# Altium footprint library E32-PcbLib.PcbLib: 17 footprints (part 1 of 2)
Each footprint in its own frame and in the unit in brackets; x right, y up, seen from the top. Pads: shape width x height; smd on the part's side, far side on the other; paste and mask are expansions set on the pad; w line width, h text height; cw(c..) or ccw(c..) is an arc to the next point about the centre after c.
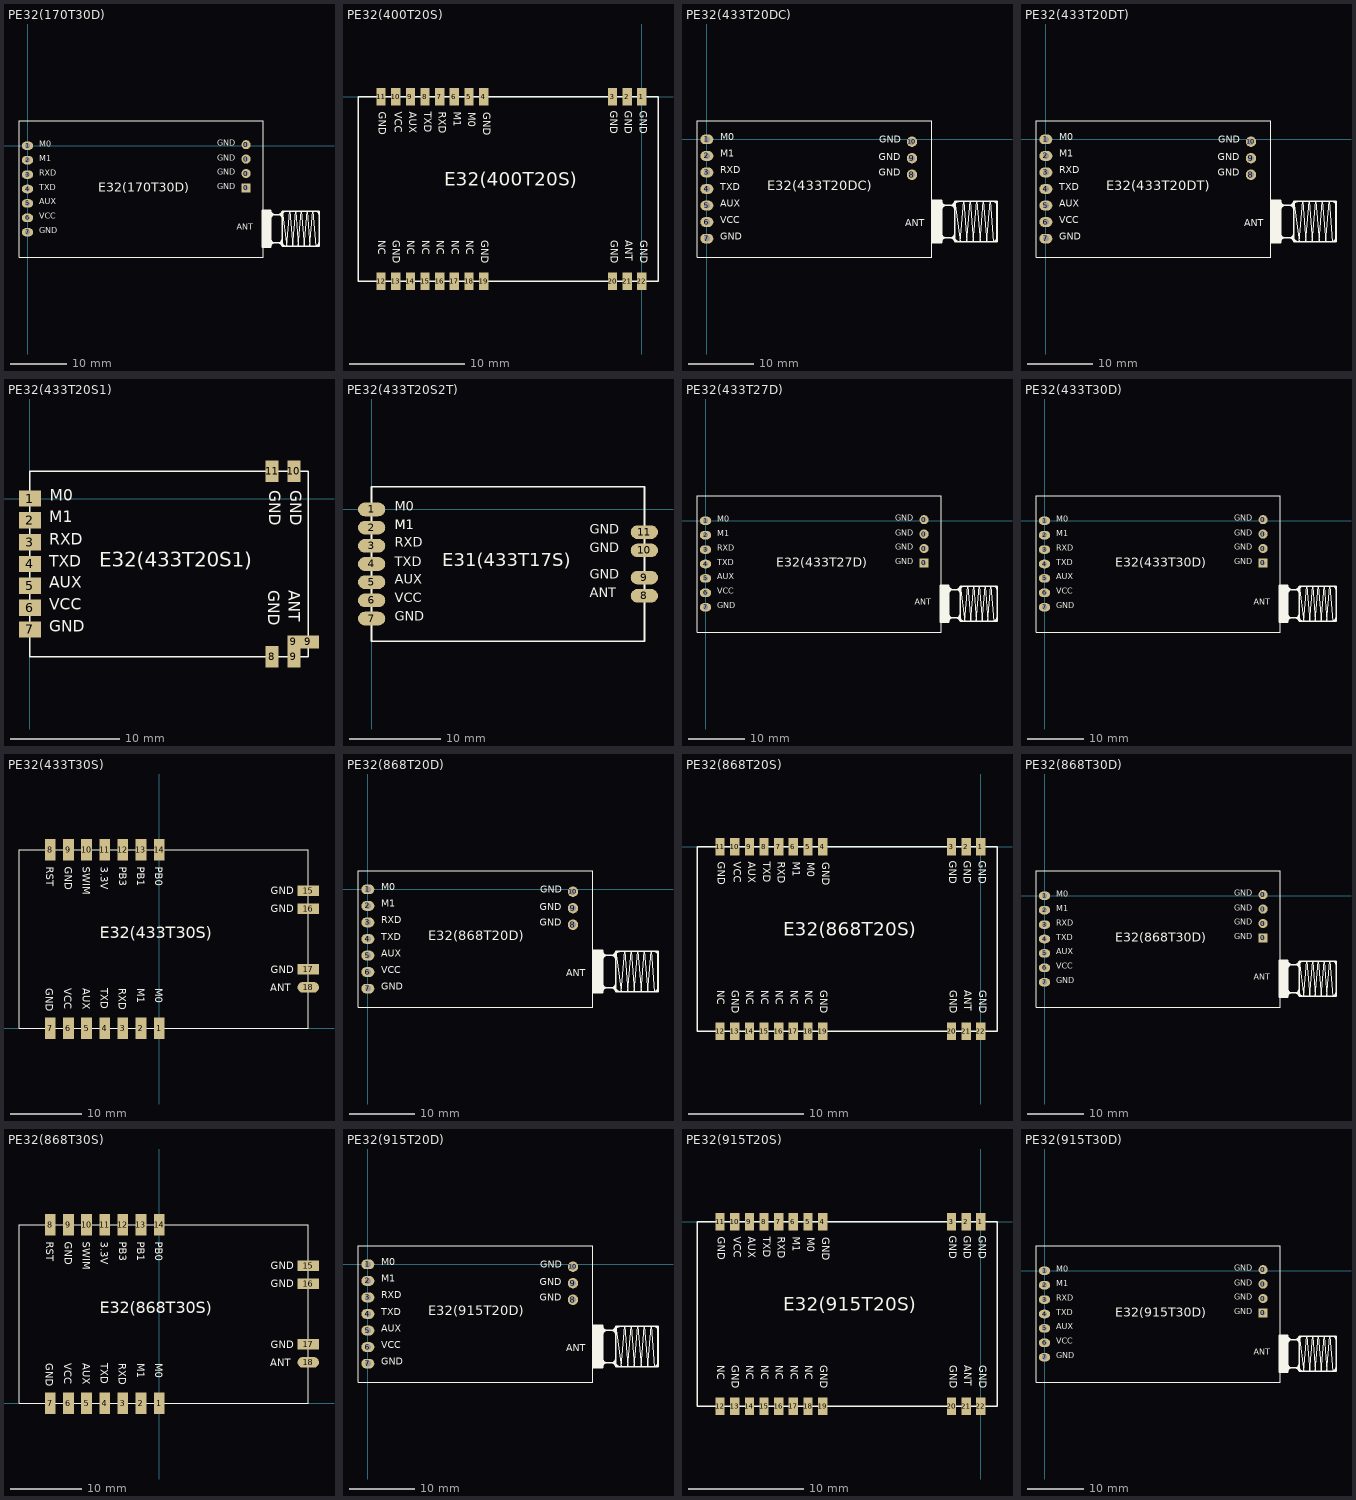
[diagram p0: the footprints below, top view; thin cyan lines are the x and y axes]

## PE32(170T30D) [mm] "43MM*24mm-D//SMA长度12.5mm"
pads (11):
  rect 1.6x1.6 hole 0.9: 0(38.5,-7.43)
  round 1.6 hole 0.9: 0(38.5,-4.89) 0(38.5,-2.35) 0(38.5,0.19)
  oval 2x1.5 hole 0.9: 1(0,0) 2(0,-2.54) 3(0,-5.08) 4(0,-7.62) 5(0,-10.16) 6(0,-12.7) 7(0,-15.24)
Top Overlay:
  rectangle: 41.35,-17.87 42.85,-11.37
  rectangle: 41.35,-17.865 42.85,-11.365
  lines w0.1: 45.7,-17.72 46.22,-11.52 ; 45.7,-17.72 44.85,-11.52 45.7,-17.72 ; 45.7,-17.72 46.22,-11.52 ; 46.22,-11.52 46.73,-17.72 ; 46.22,-11.52 46.73,-17.72 ; 46.73,-17.72 47.24,-11.52 ; 46.73,-17.72 47.24,-11.52 ; 47.24,-11.52 47.72,-17.72 ; 47.24,-11.52 47.72,-17.72 ; 47.72,-17.72 48.24,-11.52 ; 47.72,-17.72 48.24,-11.52 ; 48.24,-11.52 48.75,-17.72 ; 48.24,-11.52 48.75,-17.72 ; 48.75,-17.72 49.24,-11.52 ; 48.75,-17.72 49.24,-11.52 ; 49.24,-11.52 49.76,-17.72 ; 49.24,-11.52 49.76,-17.72 ; 49.76,-17.72 50.28,-11.52 ; 49.76,-17.72 50.28,-11.52 ; 50.28,-11.52 50.79,-17.72 50.28,-11.52 ; -1.5,-19.62 41.5,-19.62 41.5,4.38 -1.5,4.38 -1.5,-19.62
  lines w0.254: 41.35,-17.87 42.85,-17.87 ; 41.35,-17.87 41.35,-11.37 ; 41.35,-17.87 42.85,-17.87 ; 41.35,-17.87 41.35,-11.37 ; 41.35,-11.37 42.85,-11.37 ; 41.35,-11.37 42.85,-11.37 ; 42.85,-17.87 42.85,-11.37 ; 42.85,-17.87 42.85,-11.37 ; 42.85,-16.47 ccw(c43.5,-16.47) 43.5,-17.12 ; 42.85,-16.47 ccw(c43.5,-16.47) 43.5,-17.12 ; 42.85,-16.47 42.85,-16.1 42.85,-16.47 ; 42.85,-12.82 cw(c43.55,-12.82) 43.55,-12.12 ; 42.85,-12.82 cw(c43.55,-12.82) 43.55,-12.12 ; 42.85,-12.82 42.85,-13.74 42.85,-12.82 ; 42.85,-11.49 ccw(c43.48,-11.49) 43.48,-12.12 ; 42.85,-11.49 ccw(c43.48,-11.49) 43.48,-12.12 ; 42.85,-11.49 42.85,-11.37 ; 42.85,-11.49 42.85,-11.37 ; 43.4,-17.12 ccw(c43.4,-17.67) 42.85,-17.67 cw(c43.4,-17.67) 43.4,-17.12 ; 43.4,-17.12 44.25,-17.12 ; 43.4,-17.12 44.25,-17.12 ; 43.48,-12.12 44.25,-12.12 ; 43.48,-12.12 44.25,-12.12 ; 43.5,-17.12 44.22,-17.12 ; 43.5,-17.12 44.22,-17.12 ; 43.55,-12.12 44.25,-12.12 ; 43.55,-12.12 44.25,-12.12 ; 44.22,-17.12 ccw(c44.22,-16.49) 44.85,-16.49 cw(c44.22,-16.49) 44.22,-17.12 ; 44.25,-17.12 cw(c44.25,-17.72) 44.85,-17.72 ; 44.25,-17.12 cw(c44.25,-17.72) 44.85,-17.72 ; 44.25,-12.12 cw(c44.25,-12.72) 44.85,-12.72 ccw(c44.25,-12.72) 44.25,-12.12 ; 44.25,-12.12 ccw(c44.25,-11.52) 44.85,-11.52 ; 44.25,-12.12 ccw(c44.25,-11.52) 44.85,-11.52 ; 44.85,-17.72 44.85,-11.52 ; 44.85,-17.72 51.35,-17.72 ; 44.85,-17.72 44.85,-11.52 ; 44.85,-17.72 51.35,-17.72 ; 44.85,-11.52 51.35,-11.52 ; 44.85,-11.52 51.35,-11.52 ; 45.53,-17.72 cw(c45.53,-17.04) 44.85,-17.04 ccw(c45.53,-17.04) 45.53,-17.72 ; 45.53,-17.72 45.68,-17.72 45.53,-17.72 ; 50.73,-17.72 ccw(c50.73,-17.1) 51.35,-17.1 cw(c50.73,-17.1) 50.73,-17.72 ; 50.73,-17.72 50.5,-17.72 50.73,-17.72 ; 50.81,-11.52 cw(c50.81,-12.06) 51.35,-12.06 ccw(c50.81,-12.06) 50.81,-11.52 ; 50.81,-11.52 50.41,-11.52 50.81,-11.52 ; 51.35,-17.72 51.35,-11.52 ; 51.35,-17.72 51.35,-11.52 ; 42.68,-17.12 44.85,-17.12 42.68,-17.12 ; 42.85,-12.12 44.85,-12.12 42.85,-12.12 ; 44.85,-12.13 cw(c45.46,-12.13) 45.46,-11.52 ccw(c45.46,-12.13) 44.85,-12.13
  text "E32(170T30D)" at 12.446,-8.763 h2.8
  text "ANT" at 36.83,-15.19 h1.8
  text "M0" at 2.063,-0.54 h1.8
  text "M1" at 2.063,-3.08 h1.8
  text "RXD" at 2.063,-5.62 h1.8
  text "TXD" at 2.063,-8.16 h1.8
  text "AUX" at 2.063,-10.7 h1.8
  text "VCC" at 2.063,-13.24 h1.8
  text "GND" at 2.063,-15.78 h1.8
  text "GND" at 33.426,-5.429 h1.8
  text "GND" at 33.426,-3.016 h1.8
  text "GND" at 33.457,-0.381 h1.8
  text "GND" at 33.457,-8.001 h1.8

## PE32(400T20S) [mm] "26mm**16mm*3.23mm-S"
pads (22):
  rect 0.8x1.5 smd: 1(0,0) 2(-1.27,0) 3(-2.54,0) 4(-13.71,0) 5(-14.98,0) 6(-16.25,0) 7(-17.52,0) 8(-18.79,0) 9(-20.06,0) 10(-21.33,0) 11(-22.6,0) 12(-22.6,-16) 13(-21.33,-16) 14(-20.06,-16) 15(-18.79,-16) 16(-17.52,-16) 17(-16.25,-16) 18(-14.98,-16) 19(-13.71,-16) 20(-2.54,-16) 21(-1.27,-16) 22(0,-16)
Top Overlay:
  lines w0.127: -24.6,-16 1.4,-16 1.4,0 -24.6,0 -24.6,-16
  text "GND" at -1.687,-1.224 h1.1
  text "GND" at -2.966,-1.224 h1.1
  text "GND" at -2.916,-12.441 h1.1
  text "ANT" at -1.637,-12.441 h1.1
  text "GND" at -0.358,-12.441 h1.1
  text "GND" at -14.138,-12.441 h1.1
  text "NC" at -15.417,-12.441 h1.1
  text "NC" at -16.696,-12.441 h1.1
  text "NC" at -17.974,-12.441 h1.1
  text "NC" at -19.253,-12.441 h1.1
  text "NC" at -20.532,-12.441 h1.1
  text "GND" at -21.811,-12.441 h1.1
  text "NC" at -23.06,-12.441 h1.1
  text "GND" at -13.97,-1.351 h1.1
  text "GND" at -23.01,-1.301 h1.1
  text "VCC" at -21.651,-1.301 h1.1
  text "AUX" at -20.372,-1.301 h1.1
  text "TXD" at -19.093,-1.301 h1.1
  text "RXD" at -17.814,-1.301 h1.1
  text "M1" at -16.536,-1.301 h1.1
  text "M0" at -15.257,-1.351 h1.1
  text "E32(400T20S)" at -17.107,-8.126 h2
  text "GND" at -0.408,-1.224 h1.1

## PE32(433T20DC) [mm] "36mm*21mm-D/SMA长度12.5mm"
pads (10):
  oval 2x1.5 hole 0.9: 1(0,0) 2(0,-2.54) 3(0,-5.08) 4(0,-7.62) 5(0,-10.16) 6(0,-12.7) 7(0,-15.24)
  round 1.6 hole 1: 8(31.49,-5.43) 9(31.49,-2.89) 10(31.49,-0.35)
Top Overlay:
  rectangle: 34.54,-15.87 36.04,-9.37
  rectangle: 34.54,-15.865 36.04,-9.365
  lines w0.1: 38.89,-15.72 39.41,-9.52 ; 38.89,-15.72 38.04,-9.52 38.89,-15.72 ; 38.89,-15.72 39.41,-9.52 ; 39.41,-9.52 39.92,-15.72 ; 39.41,-9.52 39.92,-15.72 ; 39.92,-15.72 40.43,-9.52 ; 39.92,-15.72 40.43,-9.52 ; 40.43,-9.52 40.91,-15.72 ; 40.43,-9.52 40.91,-15.72 ; 40.91,-15.72 41.43,-9.52 ; 40.91,-15.72 41.43,-9.52 ; 41.43,-9.52 41.94,-15.72 ; 41.43,-9.52 41.94,-15.72 ; 41.94,-15.72 42.43,-9.52 ; 41.94,-15.72 42.43,-9.52 ; 42.43,-9.52 42.95,-15.72 ; 42.43,-9.52 42.95,-15.72 ; 42.95,-15.72 43.47,-9.52 ; 42.95,-15.72 43.47,-9.52 ; 43.47,-9.52 43.98,-15.72 43.47,-9.52 ; -1.51,-18.12 34.558,-18.12 34.558,2.88 -1.51,2.88 -1.51,-18.12
  lines w0.254: 34.54,-15.87 36.04,-15.87 ; 34.54,-15.87 34.54,-9.37 ; 34.54,-15.87 36.04,-15.87 ; 34.54,-15.87 34.54,-9.37 ; 34.54,-9.37 36.04,-9.37 ; 34.54,-9.37 36.04,-9.37 ; 36.04,-15.87 36.04,-9.37 ; 36.04,-15.87 36.04,-9.37 ; 36.04,-14.47 ccw(c36.69,-14.47) 36.69,-15.12 ; 36.04,-14.47 ccw(c36.69,-14.47) 36.69,-15.12 ; 36.04,-14.47 36.04,-14.1 36.04,-14.47 ; 36.04,-10.82 cw(c36.74,-10.82) 36.74,-10.12 ; 36.04,-10.82 cw(c36.74,-10.82) 36.74,-10.12 ; 36.04,-10.82 36.04,-11.74 36.04,-10.82 ; 36.04,-9.49 ccw(c36.67,-9.49) 36.67,-10.12 ; 36.04,-9.49 ccw(c36.67,-9.49) 36.67,-10.12 ; 36.04,-9.49 36.04,-9.37 ; 36.04,-9.49 36.04,-9.37 ; 36.59,-15.12 ccw(c36.59,-15.67) 36.04,-15.67 cw(c36.59,-15.67) 36.59,-15.12 ; 36.59,-15.12 37.44,-15.12 ; 36.59,-15.12 37.44,-15.12 ; 36.67,-10.12 37.44,-10.12 ; 36.67,-10.12 37.44,-10.12 ; 36.69,-15.12 37.41,-15.12 ; 36.69,-15.12 37.41,-15.12 ; 36.74,-10.12 37.44,-10.12 ; 36.74,-10.12 37.44,-10.12 ; 37.41,-15.12 ccw(c37.41,-14.49) 38.04,-14.49 cw(c37.41,-14.49) 37.41,-15.12 ; 37.44,-15.12 cw(c37.44,-15.72) 38.04,-15.72 ; 37.44,-15.12 cw(c37.44,-15.72) 38.04,-15.72 ; 37.44,-10.12 cw(c37.44,-10.72) 38.04,-10.72 ccw(c37.44,-10.72) 37.44,-10.12 ; 37.44,-10.12 ccw(c37.44,-9.52) 38.04,-9.52 ; 37.44,-10.12 ccw(c37.44,-9.52) 38.04,-9.52 ; 38.04,-15.72 38.04,-9.52 ; 38.04,-15.72 44.54,-15.72 ; 38.04,-15.72 38.04,-9.52 ; 38.04,-15.72 44.54,-15.72 ; 38.04,-9.52 44.54,-9.52 ; 38.04,-9.52 44.54,-9.52 ; 38.72,-15.72 cw(c38.72,-15.04) 38.04,-15.04 ccw(c38.72,-15.04) 38.72,-15.72 ; 38.72,-15.72 38.87,-15.72 38.72,-15.72 ; 43.92,-15.72 ccw(c43.92,-15.1) 44.54,-15.1 cw(c43.92,-15.1) 43.92,-15.72 ; 43.92,-15.72 43.69,-15.72 43.92,-15.72 ; 44,-9.52 cw(c44,-10.06) 44.54,-10.06 ccw(c44,-10.06) 44,-9.52 ; 44,-9.52 43.6,-9.52 44,-9.52 ; 44.54,-15.72 44.54,-9.52 ; 44.54,-15.72 44.54,-9.52 ; 35.87,-15.12 38.04,-15.12 35.87,-15.12 ; 36.04,-10.12 38.04,-10.12 36.04,-10.12 ; 38.04,-10.13 cw(c38.65,-10.13) 38.65,-9.52 ccw(c38.65,-10.13) 38.04,-10.13
  text "GND" at 2.063,-15.78 h1.8
  text "VCC" at 2.063,-13.24 h1.8
  text "AUX" at 2.063,-10.7 h1.8
  text "TXD" at 2.063,-8.16 h1.8
  text "RXD" at 2.063,-5.62 h1.8
  text "M1" at 2.063,-3.08 h1.8
  text "M0" at 2.063,-0.54 h1.8
  text "ANT" at 30.48,-13.716 h1.8
  text "GND" at 26.447,-0.921 h1.8
  text "GND" at 26.416,-3.556 h1.8
  text "GND" at 26.416,-5.969 h1.8
  text "E32(433T20DC)" at 9.271,-8.382 h2.5

## PE32(433T20DT) [mm] "36mm*21mm-D/SMA长度12.5mm"
pads (10):
  oval 2x1.5 hole 0.9: 1(0,0) 2(0,-2.54) 3(0,-5.08) 4(0,-7.62) 5(0,-10.16) 6(0,-12.7) 7(0,-15.24)
  round 1.6 hole 1: 8(31.49,-5.43) 9(31.49,-2.89) 10(31.49,-0.35)
Top Overlay:
  rectangle: 34.54,-15.87 36.04,-9.37
  rectangle: 34.54,-15.865 36.04,-9.365
  lines w0.1: 38.89,-15.72 39.41,-9.52 ; 38.89,-15.72 38.04,-9.52 38.89,-15.72 ; 38.89,-15.72 39.41,-9.52 ; 39.41,-9.52 39.92,-15.72 ; 39.41,-9.52 39.92,-15.72 ; 39.92,-15.72 40.43,-9.52 ; 39.92,-15.72 40.43,-9.52 ; 40.43,-9.52 40.91,-15.72 ; 40.43,-9.52 40.91,-15.72 ; 40.91,-15.72 41.43,-9.52 ; 40.91,-15.72 41.43,-9.52 ; 41.43,-9.52 41.94,-15.72 ; 41.43,-9.52 41.94,-15.72 ; 41.94,-15.72 42.43,-9.52 ; 41.94,-15.72 42.43,-9.52 ; 42.43,-9.52 42.95,-15.72 ; 42.43,-9.52 42.95,-15.72 ; 42.95,-15.72 43.47,-9.52 ; 42.95,-15.72 43.47,-9.52 ; 43.47,-9.52 43.98,-15.72 43.47,-9.52 ; -1.51,-18.12 34.558,-18.12 34.558,2.88 -1.51,2.88 -1.51,-18.12
  lines w0.254: 34.54,-15.87 36.04,-15.87 ; 34.54,-15.87 34.54,-9.37 ; 34.54,-15.87 36.04,-15.87 ; 34.54,-15.87 34.54,-9.37 ; 34.54,-9.37 36.04,-9.37 ; 34.54,-9.37 36.04,-9.37 ; 36.04,-15.87 36.04,-9.37 ; 36.04,-15.87 36.04,-9.37 ; 36.04,-14.47 ccw(c36.69,-14.47) 36.69,-15.12 ; 36.04,-14.47 ccw(c36.69,-14.47) 36.69,-15.12 ; 36.04,-14.47 36.04,-14.1 36.04,-14.47 ; 36.04,-10.82 cw(c36.74,-10.82) 36.74,-10.12 ; 36.04,-10.82 cw(c36.74,-10.82) 36.74,-10.12 ; 36.04,-10.82 36.04,-11.74 36.04,-10.82 ; 36.04,-9.49 ccw(c36.67,-9.49) 36.67,-10.12 ; 36.04,-9.49 ccw(c36.67,-9.49) 36.67,-10.12 ; 36.04,-9.49 36.04,-9.37 ; 36.04,-9.49 36.04,-9.37 ; 36.59,-15.12 ccw(c36.59,-15.67) 36.04,-15.67 cw(c36.59,-15.67) 36.59,-15.12 ; 36.59,-15.12 37.44,-15.12 ; 36.59,-15.12 37.44,-15.12 ; 36.67,-10.12 37.44,-10.12 ; 36.67,-10.12 37.44,-10.12 ; 36.69,-15.12 37.41,-15.12 ; 36.69,-15.12 37.41,-15.12 ; 36.74,-10.12 37.44,-10.12 ; 36.74,-10.12 37.44,-10.12 ; 37.41,-15.12 ccw(c37.41,-14.49) 38.04,-14.49 cw(c37.41,-14.49) 37.41,-15.12 ; 37.44,-15.12 cw(c37.44,-15.72) 38.04,-15.72 ; 37.44,-15.12 cw(c37.44,-15.72) 38.04,-15.72 ; 37.44,-10.12 cw(c37.44,-10.72) 38.04,-10.72 ccw(c37.44,-10.72) 37.44,-10.12 ; 37.44,-10.12 ccw(c37.44,-9.52) 38.04,-9.52 ; 37.44,-10.12 ccw(c37.44,-9.52) 38.04,-9.52 ; 38.04,-15.72 38.04,-9.52 ; 38.04,-15.72 44.54,-15.72 ; 38.04,-15.72 38.04,-9.52 ; 38.04,-15.72 44.54,-15.72 ; 38.04,-9.52 44.54,-9.52 ; 38.04,-9.52 44.54,-9.52 ; 38.72,-15.72 cw(c38.72,-15.04) 38.04,-15.04 ccw(c38.72,-15.04) 38.72,-15.72 ; 38.72,-15.72 38.87,-15.72 38.72,-15.72 ; 43.92,-15.72 ccw(c43.92,-15.1) 44.54,-15.1 cw(c43.92,-15.1) 43.92,-15.72 ; 43.92,-15.72 43.69,-15.72 43.92,-15.72 ; 44,-9.52 cw(c44,-10.06) 44.54,-10.06 ccw(c44,-10.06) 44,-9.52 ; 44,-9.52 43.6,-9.52 44,-9.52 ; 44.54,-15.72 44.54,-9.52 ; 44.54,-15.72 44.54,-9.52 ; 35.87,-15.12 38.04,-15.12 35.87,-15.12 ; 36.04,-10.12 38.04,-10.12 36.04,-10.12 ; 38.04,-10.13 cw(c38.65,-10.13) 38.65,-9.52 ccw(c38.65,-10.13) 38.04,-10.13
  text "GND" at 2.063,-15.78 h1.8
  text "VCC" at 2.063,-13.24 h1.8
  text "AUX" at 2.063,-10.7 h1.8
  text "TXD" at 2.063,-8.16 h1.8
  text "RXD" at 2.063,-5.62 h1.8
  text "M1" at 2.063,-3.08 h1.8
  text "M0" at 2.063,-0.54 h1.8
  text "ANT" at 30.48,-13.716 h1.8
  text "GND" at 26.447,-0.921 h1.8
  text "GND" at 26.416,-3.556 h1.8
  text "GND" at 26.416,-5.969 h1.8
  text "E32(433T20DT)" at 9.271,-8.382 h2.5

## PE32(433T20S1) [mm] "25.56mm*17mm*2.10mm-S"
pads (13):
  rect 2x1.5 smd: 1(0,0) 2(0,-2) 3(0,-4) 4(0,-6) 5(0,-8) 6(0,-10) 7(0,-12)
  rect 1.2x2 smd: 8(22.2,-14.5) 9(24.2,-14.5) 10(24.2,2.5) 11(22.2,2.5)
  rect 1.2x1.2 smd: 9(24.2,-13.14)
  rect 2x1.2 smd: 9(25.5,-13.14)
Top Overlay:
  lines w0.127: 0,-14.5 0,2.5 25.5,2.5 25.5,-14.5 0,-14.5
  text "ANT" at 23.368,-8.404 h1.8
  text "GND" at 21.463,-8.404 h1.8
  text "GND" at 23.495,0.74 h1.8
  text "GND" at 21.59,0.74 h1.8
  text "GND" at 1.778,-12.595 h1.8
  text "VCC" at 1.778,-10.563 h1.8
  text "AUX" at 1.778,-8.531 h1.8
  text "TXD" at 1.778,-6.626 h1.8
  text "RXD" at 1.778,-4.594 h1.8
  text "M1" at 1.778,-2.562 h1.8
  text "M0" at 1.809,-0.562 h1.8
  text "E32(433T20S1)" at 6.35,-6.731 h2.3

## PE32(433T20S2T) [mm] "30mm*17mm*2.4mm-S"
pads (11):
  oval 3x1.5 smd: 1(0,0) 2(0,-2) 3(0,-4) 4(0,-6) 5(0,-8) 6(0,-10) 7(0,-12) 8(30,-9.5) 9(30,-7.5) 10(30,-4.5) 11(30,-2.5)
Top Overlay:
  lines w0.2: 0,-14.5 30,-14.5 30,2.5 0,2.5 0,-14.5
  text "ANT" at 24.017,-10.064 h1.8
  text "GND" at 24.017,-8.032 h1.8
  text "GND" at 24.017,-5.111 h1.8
  text "GND" at 24.017,-3.079 h1.8
  text "GND" at 2.554,-12.604 h1.8
  text "VCC" at 2.554,-10.572 h1.8
  text "TXD" at 2.554,-6.635 h1.8
  text "RXD" at 2.554,-4.476 h1.8
  text "M1" at 2.554,-2.571 h1.8
  text "M1" at 2.554,-2.571 h1.8
  text "M0" at 2.554,-0.539 h1.8
  text "AUX" at 2.554,-8.54 h1.8
  text "E31(433T17S)" at 7.761,-6.762 h2.5

## PE32(433T27D) [mm] "43MM*24mm-D//SMA长度12.5mm"
pads (11):
  rect 1.6x1.6 hole 0.9: 0(38.5,-7.43)
  round 1.6 hole 0.9: 0(38.5,-4.89) 0(38.5,-2.35) 0(38.5,0.19)
  oval 2x1.5 hole 0.9: 1(0,0) 2(0,-2.54) 3(0,-5.08) 4(0,-7.62) 5(0,-10.16) 6(0,-12.7) 7(0,-15.24)
Top Overlay:
  rectangle: 41.35,-17.87 42.85,-11.37
  rectangle: 41.35,-17.865 42.85,-11.365
  lines w0.1: 45.7,-17.72 46.22,-11.52 ; 45.7,-17.72 44.85,-11.52 45.7,-17.72 ; 45.7,-17.72 46.22,-11.52 ; 46.22,-11.52 46.73,-17.72 ; 46.22,-11.52 46.73,-17.72 ; 46.73,-17.72 47.24,-11.52 ; 46.73,-17.72 47.24,-11.52 ; 47.24,-11.52 47.72,-17.72 ; 47.24,-11.52 47.72,-17.72 ; 47.72,-17.72 48.24,-11.52 ; 47.72,-17.72 48.24,-11.52 ; 48.24,-11.52 48.75,-17.72 ; 48.24,-11.52 48.75,-17.72 ; 48.75,-17.72 49.24,-11.52 ; 48.75,-17.72 49.24,-11.52 ; 49.24,-11.52 49.76,-17.72 ; 49.24,-11.52 49.76,-17.72 ; 49.76,-17.72 50.28,-11.52 ; 49.76,-17.72 50.28,-11.52 ; 50.28,-11.52 50.79,-17.72 50.28,-11.52 ; -1.5,-19.62 41.5,-19.62 41.5,4.38 -1.5,4.38 -1.5,-19.62
  lines w0.254: 41.35,-17.87 42.85,-17.87 ; 41.35,-17.87 41.35,-11.37 ; 41.35,-17.87 42.85,-17.87 ; 41.35,-17.87 41.35,-11.37 ; 41.35,-11.37 42.85,-11.37 ; 41.35,-11.37 42.85,-11.37 ; 42.85,-17.87 42.85,-11.37 ; 42.85,-17.87 42.85,-11.37 ; 42.85,-16.47 ccw(c43.5,-16.47) 43.5,-17.12 ; 42.85,-16.47 ccw(c43.5,-16.47) 43.5,-17.12 ; 42.85,-16.47 42.85,-16.1 42.85,-16.47 ; 42.85,-12.82 cw(c43.55,-12.82) 43.55,-12.12 ; 42.85,-12.82 cw(c43.55,-12.82) 43.55,-12.12 ; 42.85,-12.82 42.85,-13.74 42.85,-12.82 ; 42.85,-11.49 ccw(c43.48,-11.49) 43.48,-12.12 ; 42.85,-11.49 ccw(c43.48,-11.49) 43.48,-12.12 ; 42.85,-11.49 42.85,-11.37 ; 42.85,-11.49 42.85,-11.37 ; 43.4,-17.12 ccw(c43.4,-17.67) 42.85,-17.67 cw(c43.4,-17.67) 43.4,-17.12 ; 43.4,-17.12 44.25,-17.12 ; 43.4,-17.12 44.25,-17.12 ; 43.48,-12.12 44.25,-12.12 ; 43.48,-12.12 44.25,-12.12 ; 43.5,-17.12 44.22,-17.12 ; 43.5,-17.12 44.22,-17.12 ; 43.55,-12.12 44.25,-12.12 ; 43.55,-12.12 44.25,-12.12 ; 44.22,-17.12 ccw(c44.22,-16.49) 44.85,-16.49 cw(c44.22,-16.49) 44.22,-17.12 ; 44.25,-17.12 cw(c44.25,-17.72) 44.85,-17.72 ; 44.25,-17.12 cw(c44.25,-17.72) 44.85,-17.72 ; 44.25,-12.12 cw(c44.25,-12.72) 44.85,-12.72 ccw(c44.25,-12.72) 44.25,-12.12 ; 44.25,-12.12 ccw(c44.25,-11.52) 44.85,-11.52 ; 44.25,-12.12 ccw(c44.25,-11.52) 44.85,-11.52 ; 44.85,-17.72 44.85,-11.52 ; 44.85,-17.72 51.35,-17.72 ; 44.85,-17.72 44.85,-11.52 ; 44.85,-17.72 51.35,-17.72 ; 44.85,-11.52 51.35,-11.52 ; 44.85,-11.52 51.35,-11.52 ; 45.53,-17.72 cw(c45.53,-17.04) 44.85,-17.04 ccw(c45.53,-17.04) 45.53,-17.72 ; 45.53,-17.72 45.68,-17.72 45.53,-17.72 ; 50.73,-17.72 ccw(c50.73,-17.1) 51.35,-17.1 cw(c50.73,-17.1) 50.73,-17.72 ; 50.73,-17.72 50.5,-17.72 50.73,-17.72 ; 50.81,-11.52 cw(c50.81,-12.06) 51.35,-12.06 ccw(c50.81,-12.06) 50.81,-11.52 ; 50.81,-11.52 50.41,-11.52 50.81,-11.52 ; 51.35,-17.72 51.35,-11.52 ; 51.35,-17.72 51.35,-11.52 ; 42.68,-17.12 44.85,-17.12 42.68,-17.12 ; 42.85,-12.12 44.85,-12.12 42.85,-12.12 ; 44.85,-12.13 cw(c45.46,-12.13) 45.46,-11.52 ccw(c45.46,-12.13) 44.85,-12.13
  text "E32(433T27D)" at 12.446,-8.763 h2.8
  text "ANT" at 36.83,-15.19 h1.8
  text "M0" at 2.063,-0.54 h1.8
  text "M1" at 2.063,-3.08 h1.8
  text "RXD" at 2.063,-5.62 h1.8
  text "TXD" at 2.063,-8.16 h1.8
  text "AUX" at 2.063,-10.7 h1.8
  text "VCC" at 2.063,-13.24 h1.8
  text "GND" at 2.063,-15.78 h1.8
  text "GND" at 33.426,-5.429 h1.8
  text "GND" at 33.426,-3.016 h1.8
  text "GND" at 33.457,-0.381 h1.8
  text "GND" at 33.457,-8.001 h1.8

## PE32(433T30D) [mm] "43MM*24mm-D//SMA长度12.5mm"
pads (11):
  rect 1.6x1.6 hole 0.9: 0(38.5,-7.43)
  round 1.6 hole 0.9: 0(38.5,-4.89) 0(38.5,-2.35) 0(38.5,0.19)
  oval 2x1.5 hole 0.9: 1(0,0) 2(0,-2.54) 3(0,-5.08) 4(0,-7.62) 5(0,-10.16) 6(0,-12.7) 7(0,-15.24)
Top Overlay:
  rectangle: 41.35,-17.87 42.85,-11.37
  rectangle: 41.35,-17.865 42.85,-11.365
  lines w0.1: 45.7,-17.72 46.22,-11.52 ; 45.7,-17.72 44.85,-11.52 45.7,-17.72 ; 45.7,-17.72 46.22,-11.52 ; 46.22,-11.52 46.73,-17.72 ; 46.22,-11.52 46.73,-17.72 ; 46.73,-17.72 47.24,-11.52 ; 46.73,-17.72 47.24,-11.52 ; 47.24,-11.52 47.72,-17.72 ; 47.24,-11.52 47.72,-17.72 ; 47.72,-17.72 48.24,-11.52 ; 47.72,-17.72 48.24,-11.52 ; 48.24,-11.52 48.75,-17.72 ; 48.24,-11.52 48.75,-17.72 ; 48.75,-17.72 49.24,-11.52 ; 48.75,-17.72 49.24,-11.52 ; 49.24,-11.52 49.76,-17.72 ; 49.24,-11.52 49.76,-17.72 ; 49.76,-17.72 50.28,-11.52 ; 49.76,-17.72 50.28,-11.52 ; 50.28,-11.52 50.79,-17.72 50.28,-11.52 ; -1.5,-19.62 41.5,-19.62 41.5,4.38 -1.5,4.38 -1.5,-19.62
  lines w0.254: 41.35,-17.87 42.85,-17.87 ; 41.35,-17.87 41.35,-11.37 ; 41.35,-17.87 42.85,-17.87 ; 41.35,-17.87 41.35,-11.37 ; 41.35,-11.37 42.85,-11.37 ; 41.35,-11.37 42.85,-11.37 ; 42.85,-17.87 42.85,-11.37 ; 42.85,-17.87 42.85,-11.37 ; 42.85,-16.47 ccw(c43.5,-16.47) 43.5,-17.12 ; 42.85,-16.47 ccw(c43.5,-16.47) 43.5,-17.12 ; 42.85,-16.47 42.85,-16.1 42.85,-16.47 ; 42.85,-12.82 cw(c43.55,-12.82) 43.55,-12.12 ; 42.85,-12.82 cw(c43.55,-12.82) 43.55,-12.12 ; 42.85,-12.82 42.85,-13.74 42.85,-12.82 ; 42.85,-11.49 ccw(c43.48,-11.49) 43.48,-12.12 ; 42.85,-11.49 ccw(c43.48,-11.49) 43.48,-12.12 ; 42.85,-11.49 42.85,-11.37 ; 42.85,-11.49 42.85,-11.37 ; 43.4,-17.12 ccw(c43.4,-17.67) 42.85,-17.67 cw(c43.4,-17.67) 43.4,-17.12 ; 43.4,-17.12 44.25,-17.12 ; 43.4,-17.12 44.25,-17.12 ; 43.48,-12.12 44.25,-12.12 ; 43.48,-12.12 44.25,-12.12 ; 43.5,-17.12 44.22,-17.12 ; 43.5,-17.12 44.22,-17.12 ; 43.55,-12.12 44.25,-12.12 ; 43.55,-12.12 44.25,-12.12 ; 44.22,-17.12 ccw(c44.22,-16.49) 44.85,-16.49 cw(c44.22,-16.49) 44.22,-17.12 ; 44.25,-17.12 cw(c44.25,-17.72) 44.85,-17.72 ; 44.25,-17.12 cw(c44.25,-17.72) 44.85,-17.72 ; 44.25,-12.12 cw(c44.25,-12.72) 44.85,-12.72 ccw(c44.25,-12.72) 44.25,-12.12 ; 44.25,-12.12 ccw(c44.25,-11.52) 44.85,-11.52 ; 44.25,-12.12 ccw(c44.25,-11.52) 44.85,-11.52 ; 44.85,-17.72 44.85,-11.52 ; 44.85,-17.72 51.35,-17.72 ; 44.85,-17.72 44.85,-11.52 ; 44.85,-17.72 51.35,-17.72 ; 44.85,-11.52 51.35,-11.52 ; 44.85,-11.52 51.35,-11.52 ; 45.53,-17.72 cw(c45.53,-17.04) 44.85,-17.04 ccw(c45.53,-17.04) 45.53,-17.72 ; 45.53,-17.72 45.68,-17.72 45.53,-17.72 ; 50.73,-17.72 ccw(c50.73,-17.1) 51.35,-17.1 cw(c50.73,-17.1) 50.73,-17.72 ; 50.73,-17.72 50.5,-17.72 50.73,-17.72 ; 50.81,-11.52 cw(c50.81,-12.06) 51.35,-12.06 ccw(c50.81,-12.06) 50.81,-11.52 ; 50.81,-11.52 50.41,-11.52 50.81,-11.52 ; 51.35,-17.72 51.35,-11.52 ; 51.35,-17.72 51.35,-11.52 ; 42.68,-17.12 44.85,-17.12 42.68,-17.12 ; 42.85,-12.12 44.85,-12.12 42.85,-12.12 ; 44.85,-12.13 cw(c45.46,-12.13) 45.46,-11.52 ccw(c45.46,-12.13) 44.85,-12.13
  text "E32(433T30D)" at 12.446,-8.763 h2.8
  text "ANT" at 36.83,-15.19 h1.8
  text "M0" at 2.063,-0.54 h1.8
  text "M1" at 2.063,-3.08 h1.8
  text "RXD" at 2.063,-5.62 h1.8
  text "TXD" at 2.063,-8.16 h1.8
  text "AUX" at 2.063,-10.7 h1.8
  text "VCC" at 2.063,-13.24 h1.8
  text "GND" at 2.063,-15.78 h1.8
  text "GND" at 33.426,-5.429 h1.8
  text "GND" at 33.426,-3.016 h1.8
  text "GND" at 33.457,-0.381 h1.8
  text "GND" at 33.457,-8.001 h1.8

## PE32(433T30S) [mm] "40.5mm*25mm*3.80mm-S"
pads (18):
  rect 1.5x3 smd: 1(0,0) 2(-2.54,0) 3(-5.08,0) 4(-7.62,0) 5(-10.16,0) 6(-12.7,0) 7(-15.24,0) 8(-15.24,25) 9(-12.7,25) 10(-10.16,25) 11(-7.62,25) 12(-5.08,25) 13(-2.54,25) 14(0,25)
  rect 3x1.5 smd: 15(20.88,19.27) 16(20.88,16.73) 17(20.88,8.27)
  oval 3x1.5 smd: 18(20.88,5.73)
Top Overlay:
  lines w0.127: -19.62,0 20.88,0 20.88,25 -19.62,25 -19.62,0
  text "SWIM" at -10.73,22.606 h1
  text "GND" at 15.602,18.73 h1
  text "GND" at 15.602,16.22 h1
  text "PB0" at -0.557,22.592 h1
  text "PB1" at -3.067,22.592 h1
  text "PB3" at -5.617,22.592 h1
  text "3.3V" at -8.147,22.592 h1
  text "GND" at -13.237,22.592 h1
  text "RST" at -15.827,22.592 h1
  text "GND" at -15.847,5.575 h1
  text "VCC" at -13.257,5.575 h1
  text "AUX" at -10.707,5.575 h1
  text "TXD" at -8.167,5.575 h1
  text "RXD" at -5.637,5.575 h1
  text "M1" at -3.087,5.575 h1
  text "M0" at -0.577,5.575 h1
  text "ANT" at 15.554,5.17 h1
  text "GND" at 15.602,7.72 h1
  text "E32(433T30S)" at -8.317,12.065 h2.8

## PE32(868T20D) [mm] "36mm*21mm-D/SMA长度12.5mm"
pads (10):
  oval 2x1.5 hole 0.9: 1(0,0) 2(0,-2.54) 3(0,-5.08) 4(0,-7.62) 5(0,-10.16) 6(0,-12.7) 7(0,-15.24)
  round 1.6 hole 1: 8(31.49,-5.43) 9(31.49,-2.89) 10(31.49,-0.35)
Top Overlay:
  rectangle: 34.54,-15.87 36.04,-9.37
  rectangle: 34.54,-15.865 36.04,-9.365
  lines w0.1: 38.89,-15.72 39.41,-9.52 ; 38.89,-15.72 38.04,-9.52 38.89,-15.72 ; 38.89,-15.72 39.41,-9.52 ; 39.41,-9.52 39.92,-15.72 ; 39.41,-9.52 39.92,-15.72 ; 39.92,-15.72 40.43,-9.52 ; 39.92,-15.72 40.43,-9.52 ; 40.43,-9.52 40.91,-15.72 ; 40.43,-9.52 40.91,-15.72 ; 40.91,-15.72 41.43,-9.52 ; 40.91,-15.72 41.43,-9.52 ; 41.43,-9.52 41.94,-15.72 ; 41.43,-9.52 41.94,-15.72 ; 41.94,-15.72 42.43,-9.52 ; 41.94,-15.72 42.43,-9.52 ; 42.43,-9.52 42.95,-15.72 ; 42.43,-9.52 42.95,-15.72 ; 42.95,-15.72 43.47,-9.52 ; 42.95,-15.72 43.47,-9.52 ; 43.47,-9.52 43.98,-15.72 43.47,-9.52 ; -1.51,-18.12 34.558,-18.12 34.558,2.88 -1.51,2.88 -1.51,-18.12
  lines w0.254: 34.54,-15.87 36.04,-15.87 ; 34.54,-15.87 34.54,-9.37 ; 34.54,-15.87 36.04,-15.87 ; 34.54,-15.87 34.54,-9.37 ; 34.54,-9.37 36.04,-9.37 ; 34.54,-9.37 36.04,-9.37 ; 36.04,-15.87 36.04,-9.37 ; 36.04,-15.87 36.04,-9.37 ; 36.04,-14.47 ccw(c36.69,-14.47) 36.69,-15.12 ; 36.04,-14.47 ccw(c36.69,-14.47) 36.69,-15.12 ; 36.04,-14.47 36.04,-14.1 36.04,-14.47 ; 36.04,-10.82 cw(c36.74,-10.82) 36.74,-10.12 ; 36.04,-10.82 cw(c36.74,-10.82) 36.74,-10.12 ; 36.04,-10.82 36.04,-11.74 36.04,-10.82 ; 36.04,-9.49 ccw(c36.67,-9.49) 36.67,-10.12 ; 36.04,-9.49 ccw(c36.67,-9.49) 36.67,-10.12 ; 36.04,-9.49 36.04,-9.37 ; 36.04,-9.49 36.04,-9.37 ; 36.59,-15.12 ccw(c36.59,-15.67) 36.04,-15.67 cw(c36.59,-15.67) 36.59,-15.12 ; 36.59,-15.12 37.44,-15.12 ; 36.59,-15.12 37.44,-15.12 ; 36.67,-10.12 37.44,-10.12 ; 36.67,-10.12 37.44,-10.12 ; 36.69,-15.12 37.41,-15.12 ; 36.69,-15.12 37.41,-15.12 ; 36.74,-10.12 37.44,-10.12 ; 36.74,-10.12 37.44,-10.12 ; 37.41,-15.12 ccw(c37.41,-14.49) 38.04,-14.49 cw(c37.41,-14.49) 37.41,-15.12 ; 37.44,-15.12 cw(c37.44,-15.72) 38.04,-15.72 ; 37.44,-15.12 cw(c37.44,-15.72) 38.04,-15.72 ; 37.44,-10.12 cw(c37.44,-10.72) 38.04,-10.72 ccw(c37.44,-10.72) 37.44,-10.12 ; 37.44,-10.12 ccw(c37.44,-9.52) 38.04,-9.52 ; 37.44,-10.12 ccw(c37.44,-9.52) 38.04,-9.52 ; 38.04,-15.72 38.04,-9.52 ; 38.04,-15.72 44.54,-15.72 ; 38.04,-15.72 38.04,-9.52 ; 38.04,-15.72 44.54,-15.72 ; 38.04,-9.52 44.54,-9.52 ; 38.04,-9.52 44.54,-9.52 ; 38.72,-15.72 cw(c38.72,-15.04) 38.04,-15.04 ccw(c38.72,-15.04) 38.72,-15.72 ; 38.72,-15.72 38.87,-15.72 38.72,-15.72 ; 43.92,-15.72 ccw(c43.92,-15.1) 44.54,-15.1 cw(c43.92,-15.1) 43.92,-15.72 ; 43.92,-15.72 43.69,-15.72 43.92,-15.72 ; 44,-9.52 cw(c44,-10.06) 44.54,-10.06 ccw(c44,-10.06) 44,-9.52 ; 44,-9.52 43.6,-9.52 44,-9.52 ; 44.54,-15.72 44.54,-9.52 ; 44.54,-15.72 44.54,-9.52 ; 35.87,-15.12 38.04,-15.12 35.87,-15.12 ; 36.04,-10.12 38.04,-10.12 36.04,-10.12 ; 38.04,-10.13 cw(c38.65,-10.13) 38.65,-9.52 ccw(c38.65,-10.13) 38.04,-10.13
  text "GND" at 2.063,-15.78 h1.8
  text "VCC" at 2.063,-13.24 h1.8
  text "AUX" at 2.063,-10.7 h1.8
  text "TXD" at 2.063,-8.16 h1.8
  text "RXD" at 2.063,-5.62 h1.8
  text "M1" at 2.063,-3.08 h1.8
  text "M0" at 2.063,-0.54 h1.8
  text "ANT" at 30.48,-13.716 h1.8
  text "GND" at 26.447,-0.921 h1.8
  text "GND" at 26.416,-3.556 h1.8
  text "GND" at 26.416,-5.969 h1.8
  text "E32(868T20D)" at 9.271,-8.382 h2.5

## PE32(868T20S) [mm] "26mm**16mm*3.23mm-S"
pads (22):
  rect 0.8x1.5 smd: 1(0,0) 2(-1.27,0) 3(-2.54,0) 4(-13.71,0) 5(-14.98,0) 6(-16.25,0) 7(-17.52,0) 8(-18.79,0) 9(-20.06,0) 10(-21.33,0) 11(-22.6,0) 12(-22.6,-16) 13(-21.33,-16) 14(-20.06,-16) 15(-18.79,-16) 16(-17.52,-16) 17(-16.25,-16) 18(-14.98,-16) 19(-13.71,-16) 20(-2.54,-16) 21(-1.27,-16) 22(0,-16)
Top Overlay:
  lines w0.127: -24.6,-16 1.4,-16 1.4,0 -24.6,0 -24.6,-16
  text "GND" at -1.687,-1.224 h1.1
  text "GND" at -2.966,-1.224 h1.1
  text "GND" at -2.916,-12.441 h1.1
  text "ANT" at -1.637,-12.441 h1.1
  text "GND" at -0.358,-12.441 h1.1
  text "GND" at -14.138,-12.441 h1.1
  text "NC" at -15.417,-12.441 h1.1
  text "NC" at -16.696,-12.441 h1.1
  text "NC" at -17.974,-12.441 h1.1
  text "NC" at -19.253,-12.441 h1.1
  text "NC" at -20.532,-12.441 h1.1
  text "GND" at -21.811,-12.441 h1.1
  text "NC" at -23.06,-12.441 h1.1
  text "GND" at -13.97,-1.351 h1.1
  text "GND" at -23.01,-1.301 h1.1
  text "VCC" at -21.651,-1.301 h1.1
  text "AUX" at -20.372,-1.301 h1.1
  text "TXD" at -19.093,-1.301 h1.1
  text "RXD" at -17.814,-1.301 h1.1
  text "M1" at -16.536,-1.301 h1.1
  text "M0" at -15.257,-1.351 h1.1
  text "E32(868T20S)" at -17.107,-8.126 h2
  text "GND" at -0.408,-1.224 h1.1

## PE32(868T30D) [mm] "43MM*24mm-D//SMA长度12.5mm"
pads (11):
  rect 1.6x1.6 hole 0.9: 0(38.5,-7.43)
  round 1.6 hole 0.9: 0(38.5,-4.89) 0(38.5,-2.35) 0(38.5,0.19)
  oval 2x1.5 hole 0.9: 1(0,0) 2(0,-2.54) 3(0,-5.08) 4(0,-7.62) 5(0,-10.16) 6(0,-12.7) 7(0,-15.24)
Top Overlay:
  rectangle: 41.35,-17.865 42.85,-11.365
  rectangle: 41.35,-17.87 42.85,-11.37
  lines w0.1: 45.7,-17.72 44.85,-11.52 45.7,-17.72 ; 45.7,-17.72 46.22,-11.52 ; 45.7,-17.72 46.22,-11.52 ; 46.22,-11.52 46.73,-17.72 ; 46.22,-11.52 46.73,-17.72 ; 46.73,-17.72 47.24,-11.52 ; 46.73,-17.72 47.24,-11.52 ; 47.24,-11.52 47.72,-17.72 ; 47.24,-11.52 47.72,-17.72 ; 47.72,-17.72 48.24,-11.52 ; 47.72,-17.72 48.24,-11.52 ; 48.24,-11.52 48.75,-17.72 ; 48.24,-11.52 48.75,-17.72 ; 48.75,-17.72 49.24,-11.52 ; 48.75,-17.72 49.24,-11.52 ; 49.24,-11.52 49.76,-17.72 ; 49.24,-11.52 49.76,-17.72 ; 49.76,-17.72 50.28,-11.52 ; 49.76,-17.72 50.28,-11.52 ; 50.28,-11.52 50.79,-17.72 50.28,-11.52 ; -1.5,-19.62 -1.5,4.38 41.5,4.38 41.5,-19.62 -1.5,-19.62
  lines w0.254: 41.35,-17.87 41.35,-11.37 ; 41.35,-17.87 42.85,-17.87 ; 41.35,-17.87 41.35,-11.37 ; 41.35,-17.87 42.85,-17.87 ; 41.35,-11.37 42.85,-11.37 ; 41.35,-11.37 42.85,-11.37 ; 42.85,-17.87 42.85,-11.37 ; 42.85,-17.87 42.85,-11.37 ; 42.85,-16.47 ccw(c43.5,-16.47) 43.5,-17.12 ; 42.85,-16.47 ccw(c43.5,-16.47) 43.5,-17.12 ; 42.85,-16.47 42.85,-16.1 42.85,-16.47 ; 42.85,-12.82 cw(c43.55,-12.82) 43.55,-12.12 ; 42.85,-12.82 cw(c43.55,-12.82) 43.55,-12.12 ; 42.85,-12.82 42.85,-13.74 42.85,-12.82 ; 42.85,-11.49 ccw(c43.48,-11.49) 43.48,-12.12 ; 42.85,-11.49 ccw(c43.48,-11.49) 43.48,-12.12 ; 42.85,-11.49 42.85,-11.37 ; 42.85,-11.49 42.85,-11.37 ; 43.4,-17.12 ccw(c43.4,-17.67) 42.85,-17.67 cw(c43.4,-17.67) 43.4,-17.12 ; 43.4,-17.12 44.25,-17.12 ; 43.4,-17.12 44.25,-17.12 ; 43.48,-12.12 44.25,-12.12 ; 43.48,-12.12 44.25,-12.12 ; 43.5,-17.12 44.22,-17.12 ; 43.5,-17.12 44.22,-17.12 ; 43.55,-12.12 44.25,-12.12 ; 43.55,-12.12 44.25,-12.12 ; 44.22,-17.12 ccw(c44.22,-16.49) 44.85,-16.49 cw(c44.22,-16.49) 44.22,-17.12 ; 44.25,-17.12 cw(c44.25,-17.72) 44.85,-17.72 ; 44.25,-17.12 cw(c44.25,-17.72) 44.85,-17.72 ; 44.25,-12.12 ccw(c44.25,-11.52) 44.85,-11.52 ; 44.25,-12.12 cw(c44.25,-12.72) 44.85,-12.72 ccw(c44.25,-12.72) 44.25,-12.12 ; 44.25,-12.12 ccw(c44.25,-11.52) 44.85,-11.52 ; 44.85,-17.72 51.35,-17.72 ; 44.85,-17.72 44.85,-11.52 ; 44.85,-17.72 51.35,-17.72 ; 44.85,-17.72 44.85,-11.52 ; 44.85,-11.52 51.35,-11.52 ; 44.85,-11.52 51.35,-11.52 ; 45.53,-17.72 cw(c45.53,-17.04) 44.85,-17.04 ccw(c45.53,-17.04) 45.53,-17.72 ; 45.53,-17.72 45.68,-17.72 45.53,-17.72 ; 50.73,-17.72 ccw(c50.73,-17.1) 51.35,-17.1 cw(c50.73,-17.1) 50.73,-17.72 ; 50.73,-17.72 50.5,-17.72 50.73,-17.72 ; 50.81,-11.52 cw(c50.81,-12.06) 51.35,-12.06 ccw(c50.81,-12.06) 50.81,-11.52 ; 50.81,-11.52 50.41,-11.52 50.81,-11.52 ; 51.35,-17.72 51.35,-11.52 ; 51.35,-17.72 51.35,-11.52 ; 42.68,-17.12 44.85,-17.12 42.68,-17.12 ; 42.85,-12.12 44.85,-12.12 42.85,-12.12 ; 44.85,-12.13 cw(c45.46,-12.13) 45.46,-11.52 ccw(c45.46,-12.13) 44.85,-12.13
  text "GND" at 33.457,-8.001 h1.8
  text "GND" at 33.457,-0.381 h1.8
  text "GND" at 33.426,-3.016 h1.8
  text "GND" at 33.426,-5.429 h1.8
  text "GND" at 2.063,-15.78 h1.8
  text "VCC" at 2.063,-13.24 h1.8
  text "AUX" at 2.063,-10.7 h1.8
  text "TXD" at 2.063,-8.16 h1.8
  text "RXD" at 2.063,-5.62 h1.8
  text "M1" at 2.063,-3.08 h1.8
  text "M0" at 2.063,-0.54 h1.8
  text "ANT" at 36.83,-15.19 h1.8
  text "E32(868T30D)" at 12.446,-8.763 h2.8

## PE32(868T30S) [mm] "40.5mm*25mm*3.80mm-S"
pads (18):
  rect 1.5x3 smd: 1(0,0) 2(-2.54,0) 3(-5.08,0) 4(-7.62,0) 5(-10.16,0) 6(-12.7,0) 7(-15.24,0) 8(-15.24,25) 9(-12.7,25) 10(-10.16,25) 11(-7.62,25) 12(-5.08,25) 13(-2.54,25) 14(0,25)
  rect 3x1.5 smd: 15(20.88,19.27) 16(20.88,16.73) 17(20.88,8.27)
  oval 3x1.5 smd: 18(20.88,5.73)
Top Overlay:
  lines w0.127: -19.62,0 20.88,0 20.88,25 -19.62,25 -19.62,0
  text "SWIM" at -10.73,22.606 h1
  text "GND" at 15.602,18.73 h1
  text "GND" at 15.602,16.22 h1
  text "PB0" at -0.557,22.592 h1
  text "PB1" at -3.067,22.592 h1
  text "PB3" at -5.617,22.592 h1
  text "3.3V" at -8.147,22.592 h1
  text "GND" at -13.237,22.592 h1
  text "RST" at -15.827,22.592 h1
  text "GND" at -15.847,5.575 h1
  text "VCC" at -13.257,5.575 h1
  text "AUX" at -10.707,5.575 h1
  text "TXD" at -8.167,5.575 h1
  text "RXD" at -5.637,5.575 h1
  text "M1" at -3.087,5.575 h1
  text "M0" at -0.577,5.575 h1
  text "ANT" at 15.554,5.17 h1
  text "GND" at 15.602,7.72 h1
  text "E32(868T30S)" at -8.317,12.065 h2.8

## PE32(915T20D) [mm] "36mm*21mm-D/SMA长度12.5mm"
pads (10):
  oval 2x1.5 hole 0.9: 1(0,0) 2(0,-2.54) 3(0,-5.08) 4(0,-7.62) 5(0,-10.16) 6(0,-12.7) 7(0,-15.24)
  round 1.6 hole 1: 8(31.49,-5.43) 9(31.49,-2.89) 10(31.49,-0.35)
Top Overlay:
  rectangle: 34.54,-15.865 36.04,-9.365
  rectangle: 34.54,-15.87 36.04,-9.37
  lines w0.1: 38.89,-15.72 38.04,-9.52 38.89,-15.72 ; 38.89,-15.72 39.41,-9.52 ; 38.89,-15.72 39.41,-9.52 ; 39.41,-9.52 39.92,-15.72 ; 39.41,-9.52 39.92,-15.72 ; 39.92,-15.72 40.43,-9.52 ; 39.92,-15.72 40.43,-9.52 ; 40.43,-9.52 40.91,-15.72 ; 40.43,-9.52 40.91,-15.72 ; 40.91,-15.72 41.43,-9.52 ; 40.91,-15.72 41.43,-9.52 ; 41.43,-9.52 41.94,-15.72 ; 41.43,-9.52 41.94,-15.72 ; 41.94,-15.72 42.43,-9.52 ; 41.94,-15.72 42.43,-9.52 ; 42.43,-9.52 42.95,-15.72 ; 42.43,-9.52 42.95,-15.72 ; 42.95,-15.72 43.47,-9.52 ; 42.95,-15.72 43.47,-9.52 ; 43.47,-9.52 43.98,-15.72 43.47,-9.52 ; -1.51,-18.12 -1.51,2.88 34.558,2.88 34.558,-18.12 -1.51,-18.12
  lines w0.254: 34.54,-15.87 34.54,-9.37 ; 34.54,-15.87 36.04,-15.87 ; 34.54,-15.87 34.54,-9.37 ; 34.54,-15.87 36.04,-15.87 ; 34.54,-9.37 36.04,-9.37 ; 34.54,-9.37 36.04,-9.37 ; 36.04,-15.87 36.04,-9.37 ; 36.04,-15.87 36.04,-9.37 ; 36.04,-14.47 ccw(c36.69,-14.47) 36.69,-15.12 ; 36.04,-14.47 ccw(c36.69,-14.47) 36.69,-15.12 ; 36.04,-14.47 36.04,-14.1 36.04,-14.47 ; 36.04,-10.82 cw(c36.74,-10.82) 36.74,-10.12 ; 36.04,-10.82 cw(c36.74,-10.82) 36.74,-10.12 ; 36.04,-10.82 36.04,-11.74 36.04,-10.82 ; 36.04,-9.49 ccw(c36.67,-9.49) 36.67,-10.12 ; 36.04,-9.49 ccw(c36.67,-9.49) 36.67,-10.12 ; 36.04,-9.49 36.04,-9.37 ; 36.04,-9.49 36.04,-9.37 ; 36.59,-15.12 ccw(c36.59,-15.67) 36.04,-15.67 cw(c36.59,-15.67) 36.59,-15.12 ; 36.59,-15.12 37.44,-15.12 ; 36.59,-15.12 37.44,-15.12 ; 36.67,-10.12 37.44,-10.12 ; 36.67,-10.12 37.44,-10.12 ; 36.69,-15.12 37.41,-15.12 ; 36.69,-15.12 37.41,-15.12 ; 36.74,-10.12 37.44,-10.12 ; 36.74,-10.12 37.44,-10.12 ; 37.41,-15.12 ccw(c37.41,-14.49) 38.04,-14.49 cw(c37.41,-14.49) 37.41,-15.12 ; 37.44,-15.12 cw(c37.44,-15.72) 38.04,-15.72 ; 37.44,-15.12 cw(c37.44,-15.72) 38.04,-15.72 ; 37.44,-10.12 ccw(c37.44,-9.52) 38.04,-9.52 ; 37.44,-10.12 cw(c37.44,-10.72) 38.04,-10.72 ccw(c37.44,-10.72) 37.44,-10.12 ; 37.44,-10.12 ccw(c37.44,-9.52) 38.04,-9.52 ; 38.04,-15.72 44.54,-15.72 ; 38.04,-15.72 38.04,-9.52 ; 38.04,-15.72 44.54,-15.72 ; 38.04,-15.72 38.04,-9.52 ; 38.04,-9.52 44.54,-9.52 ; 38.04,-9.52 44.54,-9.52 ; 38.72,-15.72 cw(c38.72,-15.04) 38.04,-15.04 ccw(c38.72,-15.04) 38.72,-15.72 ; 38.72,-15.72 38.87,-15.72 38.72,-15.72 ; 43.92,-15.72 ccw(c43.92,-15.1) 44.54,-15.1 cw(c43.92,-15.1) 43.92,-15.72 ; 43.92,-15.72 43.69,-15.72 43.92,-15.72 ; 44,-9.52 cw(c44,-10.06) 44.54,-10.06 ccw(c44,-10.06) 44,-9.52 ; 44,-9.52 43.6,-9.52 44,-9.52 ; 44.54,-15.72 44.54,-9.52 ; 44.54,-15.72 44.54,-9.52 ; 35.87,-15.12 38.04,-15.12 35.87,-15.12 ; 36.04,-10.12 38.04,-10.12 36.04,-10.12 ; 38.04,-10.13 cw(c38.65,-10.13) 38.65,-9.52 ccw(c38.65,-10.13) 38.04,-10.13
  text "E32(915T20D)" at 9.271,-8.382 h2.5
  text "GND" at 26.416,-5.969 h1.8
  text "GND" at 26.416,-3.556 h1.8
  text "GND" at 26.447,-0.921 h1.8
  text "ANT" at 30.48,-13.716 h1.8
  text "M0" at 2.063,-0.54 h1.8
  text "M1" at 2.063,-3.08 h1.8
  text "RXD" at 2.063,-5.62 h1.8
  text "TXD" at 2.063,-8.16 h1.8
  text "AUX" at 2.063,-10.7 h1.8
  text "VCC" at 2.063,-13.24 h1.8
  text "GND" at 2.063,-15.78 h1.8

## PE32(915T20S) [mm] "26mm**16mm*3.23mm-S"
pads (22):
  rect 0.8x1.5 smd: 1(0,0) 2(-1.27,0) 3(-2.54,0) 4(-13.71,0) 5(-14.98,0) 6(-16.25,0) 7(-17.52,0) 8(-18.79,0) 9(-20.06,0) 10(-21.33,0) 11(-22.6,0) 12(-22.6,-16) 13(-21.33,-16) 14(-20.06,-16) 15(-18.79,-16) 16(-17.52,-16) 17(-16.25,-16) 18(-14.98,-16) 19(-13.71,-16) 20(-2.54,-16) 21(-1.27,-16) 22(0,-16)
Top Overlay:
  lines w0.127: -24.6,-16 1.4,-16 1.4,0 -24.6,0 -24.6,-16
  text "GND" at -1.687,-1.224 h1.1
  text "GND" at -2.966,-1.224 h1.1
  text "GND" at -2.916,-12.441 h1.1
  text "ANT" at -1.637,-12.441 h1.1
  text "GND" at -0.358,-12.441 h1.1
  text "GND" at -14.138,-12.441 h1.1
  text "NC" at -15.417,-12.441 h1.1
  text "NC" at -16.696,-12.441 h1.1
  text "NC" at -17.974,-12.441 h1.1
  text "NC" at -19.253,-12.441 h1.1
  text "NC" at -20.532,-12.441 h1.1
  text "GND" at -21.811,-12.441 h1.1
  text "NC" at -23.06,-12.441 h1.1
  text "GND" at -13.97,-1.351 h1.1
  text "GND" at -23.01,-1.301 h1.1
  text "VCC" at -21.651,-1.301 h1.1
  text "AUX" at -20.372,-1.301 h1.1
  text "TXD" at -19.093,-1.301 h1.1
  text "RXD" at -17.814,-1.301 h1.1
  text "M1" at -16.536,-1.301 h1.1
  text "M0" at -15.257,-1.351 h1.1
  text "E32(915T20S)" at -17.107,-8.126 h2
  text "GND" at -0.408,-1.224 h1.1

## PE32(915T30D) [mm] "43MM*24mm-D//SMA长度12.5mm"
pads (11):
  rect 1.6x1.6 hole 0.9: 0(38.5,-7.43)
  round 1.6 hole 0.9: 0(38.5,-4.89) 0(38.5,-2.35) 0(38.5,0.19)
  oval 2x1.5 hole 0.9: 1(0,0) 2(0,-2.54) 3(0,-5.08) 4(0,-7.62) 5(0,-10.16) 6(0,-12.7) 7(0,-15.24)
Top Overlay:
  rectangle: 41.35,-17.87 42.85,-11.37
  rectangle: 41.35,-17.865 42.85,-11.365
  lines w0.1: 45.7,-17.72 46.22,-11.52 ; 45.7,-17.72 44.85,-11.52 45.7,-17.72 ; 45.7,-17.72 46.22,-11.52 ; 46.22,-11.52 46.73,-17.72 ; 46.22,-11.52 46.73,-17.72 ; 46.73,-17.72 47.24,-11.52 ; 46.73,-17.72 47.24,-11.52 ; 47.24,-11.52 47.72,-17.72 ; 47.24,-11.52 47.72,-17.72 ; 47.72,-17.72 48.24,-11.52 ; 47.72,-17.72 48.24,-11.52 ; 48.24,-11.52 48.75,-17.72 ; 48.24,-11.52 48.75,-17.72 ; 48.75,-17.72 49.24,-11.52 ; 48.75,-17.72 49.24,-11.52 ; 49.24,-11.52 49.76,-17.72 ; 49.24,-11.52 49.76,-17.72 ; 49.76,-17.72 50.28,-11.52 ; 49.76,-17.72 50.28,-11.52 ; 50.28,-11.52 50.79,-17.72 50.28,-11.52 ; -1.5,-19.62 41.5,-19.62 41.5,4.38 -1.5,4.38 -1.5,-19.62
  lines w0.254: 41.35,-17.87 42.85,-17.87 ; 41.35,-17.87 41.35,-11.37 ; 41.35,-17.87 42.85,-17.87 ; 41.35,-17.87 41.35,-11.37 ; 41.35,-11.37 42.85,-11.37 ; 41.35,-11.37 42.85,-11.37 ; 42.85,-17.87 42.85,-11.37 ; 42.85,-17.87 42.85,-11.37 ; 42.85,-16.47 ccw(c43.5,-16.47) 43.5,-17.12 ; 42.85,-16.47 ccw(c43.5,-16.47) 43.5,-17.12 ; 42.85,-16.47 42.85,-16.1 42.85,-16.47 ; 42.85,-12.82 cw(c43.55,-12.82) 43.55,-12.12 ; 42.85,-12.82 cw(c43.55,-12.82) 43.55,-12.12 ; 42.85,-12.82 42.85,-13.74 42.85,-12.82 ; 42.85,-11.49 ccw(c43.48,-11.49) 43.48,-12.12 ; 42.85,-11.49 ccw(c43.48,-11.49) 43.48,-12.12 ; 42.85,-11.49 42.85,-11.37 ; 42.85,-11.49 42.85,-11.37 ; 43.4,-17.12 ccw(c43.4,-17.67) 42.85,-17.67 cw(c43.4,-17.67) 43.4,-17.12 ; 43.4,-17.12 44.25,-17.12 ; 43.4,-17.12 44.25,-17.12 ; 43.48,-12.12 44.25,-12.12 ; 43.48,-12.12 44.25,-12.12 ; 43.5,-17.12 44.22,-17.12 ; 43.5,-17.12 44.22,-17.12 ; 43.55,-12.12 44.25,-12.12 ; 43.55,-12.12 44.25,-12.12 ; 44.22,-17.12 ccw(c44.22,-16.49) 44.85,-16.49 cw(c44.22,-16.49) 44.22,-17.12 ; 44.25,-17.12 cw(c44.25,-17.72) 44.85,-17.72 ; 44.25,-17.12 cw(c44.25,-17.72) 44.85,-17.72 ; 44.25,-12.12 cw(c44.25,-12.72) 44.85,-12.72 ccw(c44.25,-12.72) 44.25,-12.12 ; 44.25,-12.12 ccw(c44.25,-11.52) 44.85,-11.52 ; 44.25,-12.12 ccw(c44.25,-11.52) 44.85,-11.52 ; 44.85,-17.72 44.85,-11.52 ; 44.85,-17.72 51.35,-17.72 ; 44.85,-17.72 44.85,-11.52 ; 44.85,-17.72 51.35,-17.72 ; 44.85,-11.52 51.35,-11.52 ; 44.85,-11.52 51.35,-11.52 ; 45.53,-17.72 cw(c45.53,-17.04) 44.85,-17.04 ccw(c45.53,-17.04) 45.53,-17.72 ; 45.53,-17.72 45.68,-17.72 45.53,-17.72 ; 50.73,-17.72 ccw(c50.73,-17.1) 51.35,-17.1 cw(c50.73,-17.1) 50.73,-17.72 ; 50.73,-17.72 50.5,-17.72 50.73,-17.72 ; 50.81,-11.52 cw(c50.81,-12.06) 51.35,-12.06 ccw(c50.81,-12.06) 50.81,-11.52 ; 50.81,-11.52 50.41,-11.52 50.81,-11.52 ; 51.35,-17.72 51.35,-11.52 ; 51.35,-17.72 51.35,-11.52 ; 42.68,-17.12 44.85,-17.12 42.68,-17.12 ; 42.85,-12.12 44.85,-12.12 42.85,-12.12 ; 44.85,-12.13 cw(c45.46,-12.13) 45.46,-11.52 ccw(c45.46,-12.13) 44.85,-12.13
  text "E32(915T30D)" at 12.446,-8.763 h2.8
  text "ANT" at 36.83,-15.19 h1.8
  text "M0" at 2.063,-0.54 h1.8
  text "M1" at 2.063,-3.08 h1.8
  text "RXD" at 2.063,-5.62 h1.8
  text "TXD" at 2.063,-8.16 h1.8
  text "AUX" at 2.063,-10.7 h1.8
  text "VCC" at 2.063,-13.24 h1.8
  text "GND" at 2.063,-15.78 h1.8
  text "GND" at 33.426,-5.429 h1.8
  text "GND" at 33.426,-3.016 h1.8
  text "GND" at 33.457,-0.381 h1.8
  text "GND" at 33.457,-8.001 h1.8